# Altium footprint library LVK25.PcbLib: 1 footprints
Each footprint in its own frame and in the unit in brackets; x right, y up, seen from the top. Pads: shape width x height; smd on the part's side, far side on the other; paste and mask are expansions set on the pad; w line width, h text height; cw(c..) or ccw(c..) is an arc to the next point about the centre after c.
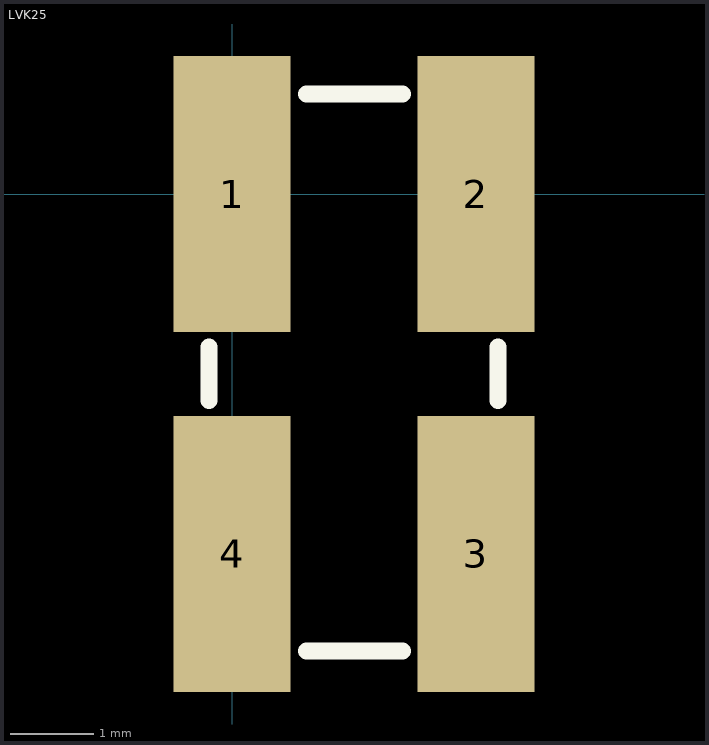
[diagram p0: the footprint, top view; thin cyan lines are the x and y axes]

## LVK25 [mil]
height 19.68
pads (4):
  rect 55x130 smd: 1(0,0) 2(114.61,0) 3(114.61,-169.29) 4(0,-169.29)
TopOverlay:
  lines w8: -11,-97 -11,-72 ; 35,-215 80,-215 ; 35,47 80,47 ; 125,-97 125,-72
3D body: height 26.38, standoff -1.97, extent -4.02,-210 118.02,42.4